# Altium integrated library Linear Technology Power Management LED Driver ICs.IntLib: 490 symbols (part 33 of 48)
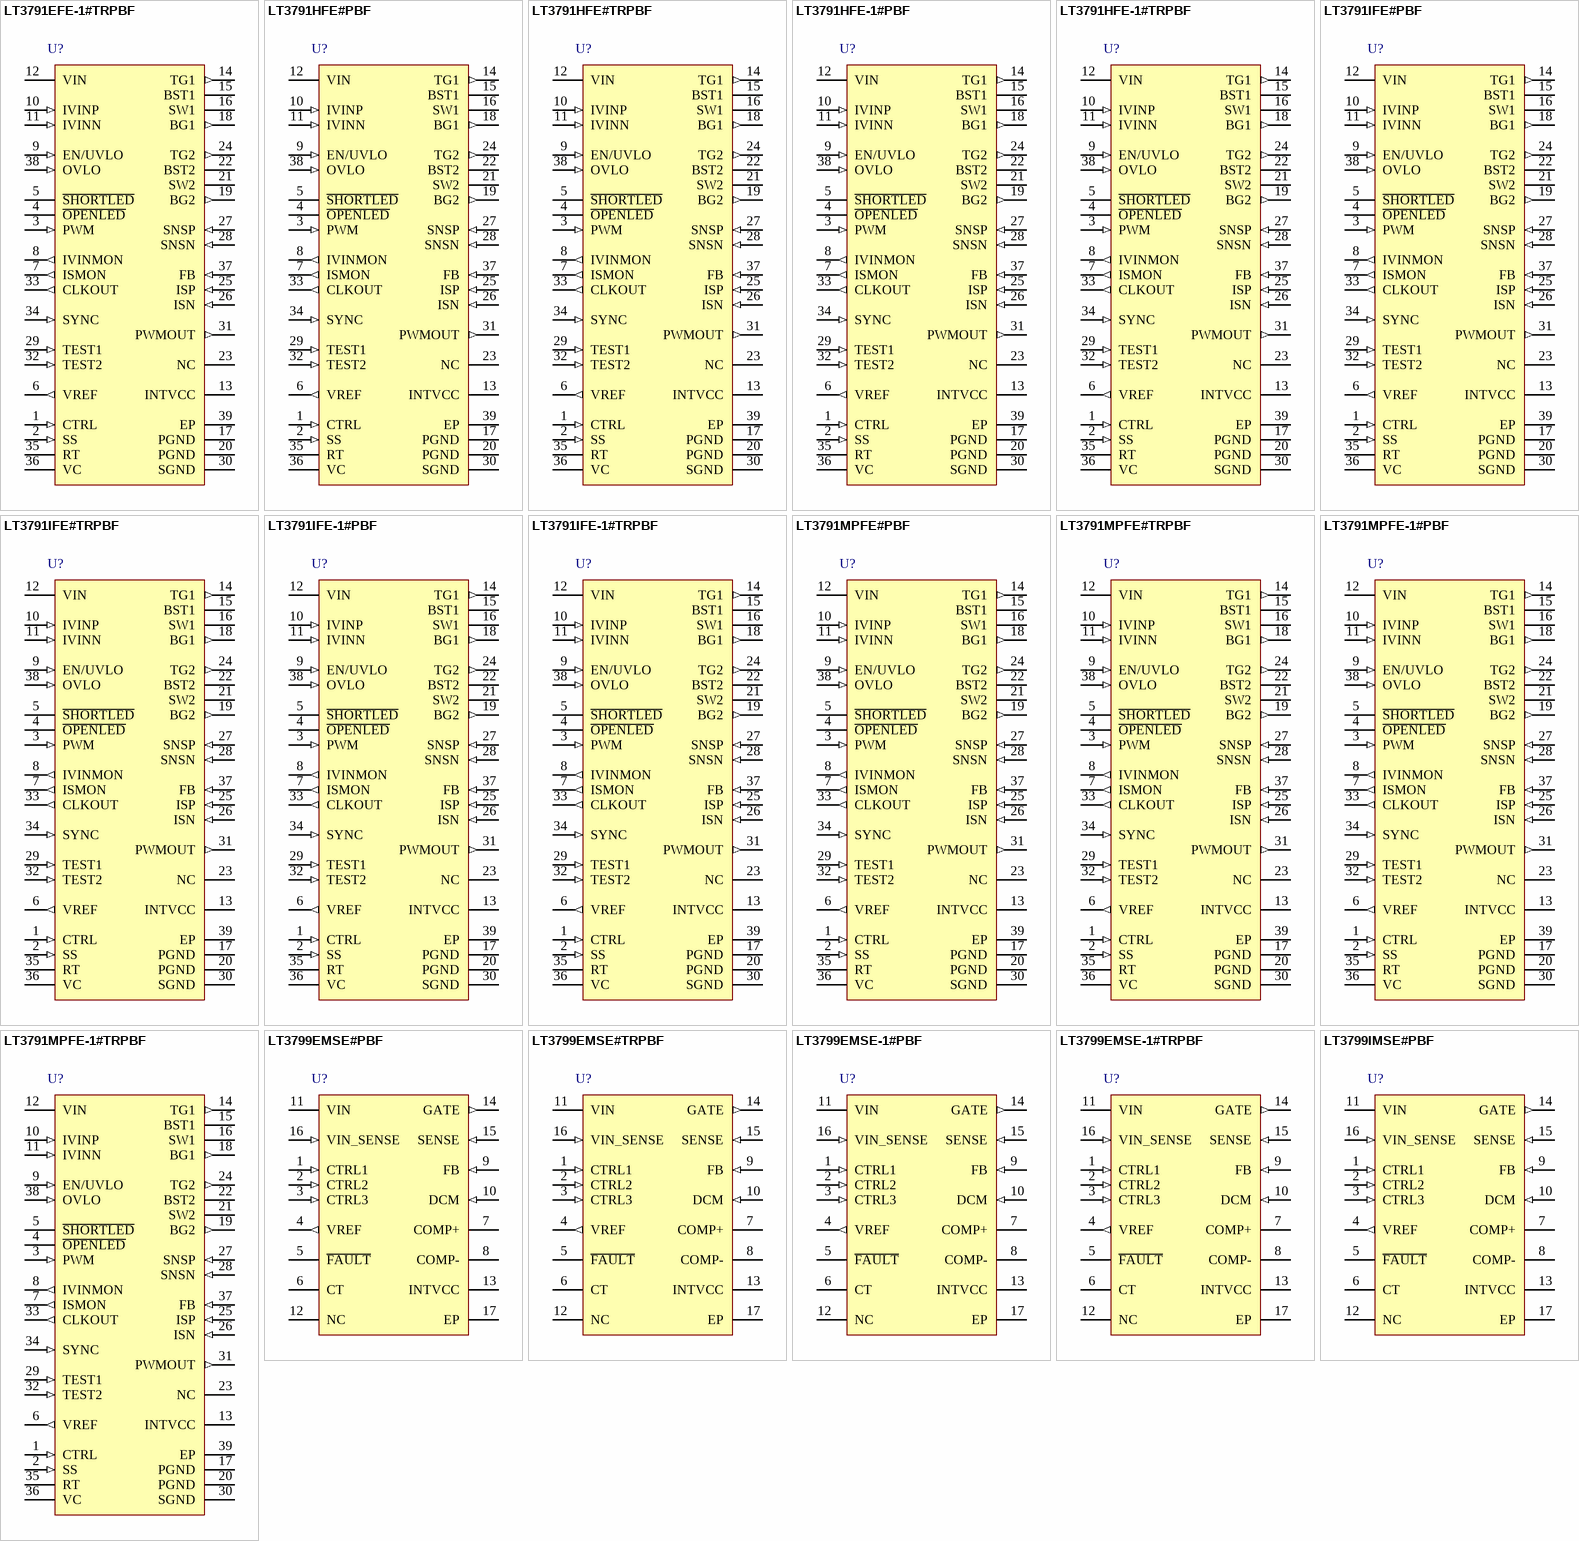
[diagram p52: symbols LT3791EFE-1#TRPBF to LT3799IMSE#PBF]

## LT3799EMSE-1#PBF
designator U?
Offline Isolated Flyback LED Controller with Active PFC, Offline 4 to 100 W+ LED Application, 16-pin SOP (MSE-16-EDP), -40 to 125 degC, Pb-Free; Manufacturer: Linear Technology; PartNumber: LT3799EMSE-1#PBF; DatasheetVersion: Rev. A; PackageVersion: Rev. F, 05/2013; PackageReference: MSE-16; PackageDescription: 16-Pin Plastic MSOP, Exposed Die Pad, Body 4.039 x 3 mm, Pitch 0.5 mm; Supplier 1: Digi-Key; Supplier Part Number 1: LT3799EMSE-1#PBF-ND; Supplier 2: Newark; Supplier Part Number 2: 78T4056; RoHS: TRUE; Topology: Flyback; Mounting Technology: Surface Mount; ComponentLink1Description: Manufacturer URL; ComponentLink1URL: http://www.linear.com/; ComponentLink2Description: Datasheet; ComponentLink2URL: http://cds.linear.com/docs/en/datasheet/3799fa.pdf; ComponentLink3Description: Package Specification; ComponentLink3URL: http://cds.linear.com/docs/en/packaging/05081667_F_MSE16.pdf
footprint LT-MSE-16-EDP_N (SOP, 16-Leads, Body 4.1x3.1mm, Pitch 0.5mm, Thermal Pad 2.95x1.76mm, IPC Medium Density)
footprint LT-MSE-16-EDP_L (SOP, 16-Leads, Body 4.1x3.1mm, Pitch 0.5mm, Thermal Pad 2.95x1.76mm, IPC High Density)
footprint LT-MSE-16-EDP_M (SOP, 16-Leads, Body 4.1x3.1mm, Pitch 0.5mm, Thermal Pad 2.95x1.76mm, IPC Low Density)
pins: 1 CTRL1 (in) "Current Output Adjustment Pins. These pins control the output current. The lowest value of the three CTRL inputs is compared to the negative input of the operational amplifier. Due to the unique nature of the LT3799 control (See Datasheet)", 2 CTRL2 (in) "Current Output Adjustment Pins. These pins control the output current. The lowest value of the three CTRL inputs is compared to the negative input of the operational amplifier. Due to the unique nature of the LT3799 control (See Datasheet)", 3 CTRL3 (in) "Current Output Adjustment Pins. These pins control the output current. The lowest value of the three CTRL inputs is compared to the negative input of the operational amplifier. Due to the unique nature of the LT3799 control (See Datasheet)", 4 VREF (out) "Voltage Reference Output Pin, Typically 2V. This pin drives a resistor divider for the CTRL pin, either for analog dimming or for temperature limit/compensation of LED load. Can supply up to 200uA.", 5 ~{FAULT} (oc) "Fault Pin. An open-collector pull-down on F\A\U\L\T\ asserts if FB is greater than 1.25V with the CT pin higher than 1.25V.", 6 CT "Timer Fault Pin. A capacitor is connected between this pin and ground to provide an internal timer for fault operations. During start-up, this pin is pulled to ground and then charged with a 10uA current. Faults related to (See Datasheet)", 7 COMP+ "Compensation Pins for Internal Error Amplifier. Connect a capacitor between these two pins to compensate the internal feedback loop.", 8 COMP- "Compensation Pins for Internal Error Amplifier. Connect a capacitor between these two pins to compensate the internal feedback loop.", 9 FB (in) "Voltage Loop Feedback Pin. FB is used to detect open LED conditions by sampling the third winding voltage. An open LED condition is reported if the CT pin and the FB pin are higher than 1.25V.", 10 DCM (in) "Discontinuous Conduction Mode Detection Pin. Connect a capacitor and resistor in series with this pin to the third winding.", 11 VIN (power) "Input Voltage. This pin supplies current to the internal start-up circuitry and to the INTVCC LDO. This pin must be locally bypassed with a capacitor. A 25V shunt regulator is internally connected to this pin.", 12 NC, 13 INTVCC (power) "Regulated Supply for Internal Loads and GATE Driver. Supplied from VIN and regulates to 10V (typical). INTVCC must be bypassed with a 4.7uF capacitor placed close to the pin.", 14 GATE (out) "N-Channel MOSFET Gate Driver Output. Switches between INTVCC and GND. This pin is pulled to GND during shutdown state.", 15 SENSE (in) "The Current Sense Input for the Control Loop. Kelvin connect this pin to the positive terminal of the switch current sense resistor, RSENSE, and the source of the N-channel MOSFET. The negative terminal of the current sense (See Datasheet)", 16 VIN_SENSE (in) "Line Voltage Sense Pin. The pin is used for sensing the AC line voltage to perform power factor correction. Connect the output of a resistor divider from the line voltage to this pin. The voltage on this pin should be (See Datasheet)", 17 EP (power) "Ground. The exposed pad of the package provides both electrical contact to ground and good thermal contact to the printed circuit board. The exposed pad must be soldered to the circuit board for proper operation."

## LT3799EMSE-1#TRPBF
designator U?
Offline Isolated Flyback LED Controller with Active PFC, Offline 4 to 100 W+ LED Application, 16-pin SOP (MSE-16-EDP), -40 to 125 degC, Pb-Free, Tape and Reel; Manufacturer: Linear Technology; PartNumber: LT3799EMSE-1#TRPBF; DatasheetVersion: Rev. A; PackageVersion: Rev. F, 05/2013; PackageReference: MSE-16; PackageDescription: 16-Pin Plastic MSOP, Exposed Die Pad, Body 4.039 x 3 mm, Pitch 0.5 mm; Supplier 1: Digi-Key; Supplier Part Number 1: LT3799EMSE-1#TRPBF-ND; Packing: Tape and Reel; RoHS: TRUE; Topology: Flyback; Mounting Technology: Surface Mount; ComponentLink1Description: Manufacturer URL; ComponentLink1URL: http://www.linear.com/; ComponentLink2Description: Datasheet; ComponentLink2URL: http://cds.linear.com/docs/en/datasheet/3799fa.pdf; ComponentLink3Description: Package Specification; ComponentLink3URL: http://cds.linear.com/docs/en/packaging/05081667_F_MSE16.pdf
footprint LT-MSE-16-EDP_N (SOP, 16-Leads, Body 4.1x3.1mm, Pitch 0.5mm, Thermal Pad 2.95x1.76mm, IPC Medium Density)
footprint LT-MSE-16-EDP_L (SOP, 16-Leads, Body 4.1x3.1mm, Pitch 0.5mm, Thermal Pad 2.95x1.76mm, IPC High Density)
footprint LT-MSE-16-EDP_M (SOP, 16-Leads, Body 4.1x3.1mm, Pitch 0.5mm, Thermal Pad 2.95x1.76mm, IPC Low Density)
pins: 1 CTRL1 (in) "Current Output Adjustment Pins. These pins control the output current. The lowest value of the three CTRL inputs is compared to the negative input of the operational amplifier. Due to the unique nature of the LT3799 control (See Datasheet)", 2 CTRL2 (in) "Current Output Adjustment Pins. These pins control the output current. The lowest value of the three CTRL inputs is compared to the negative input of the operational amplifier. Due to the unique nature of the LT3799 control (See Datasheet)", 3 CTRL3 (in) "Current Output Adjustment Pins. These pins control the output current. The lowest value of the three CTRL inputs is compared to the negative input of the operational amplifier. Due to the unique nature of the LT3799 control (See Datasheet)", 4 VREF (out) "Voltage Reference Output Pin, Typically 2V. This pin drives a resistor divider for the CTRL pin, either for analog dimming or for temperature limit/compensation of LED load. Can supply up to 200uA.", 5 ~{FAULT} (oc) "Fault Pin. An open-collector pull-down on F\A\U\L\T\ asserts if FB is greater than 1.25V with the CT pin higher than 1.25V.", 6 CT "Timer Fault Pin. A capacitor is connected between this pin and ground to provide an internal timer for fault operations. During start-up, this pin is pulled to ground and then charged with a 10uA current. Faults related to (See Datasheet)", 7 COMP+ "Compensation Pins for Internal Error Amplifier. Connect a capacitor between these two pins to compensate the internal feedback loop.", 8 COMP- "Compensation Pins for Internal Error Amplifier. Connect a capacitor between these two pins to compensate the internal feedback loop.", 9 FB (in) "Voltage Loop Feedback Pin. FB is used to detect open LED conditions by sampling the third winding voltage. An open LED condition is reported if the CT pin and the FB pin are higher than 1.25V.", 10 DCM (in) "Discontinuous Conduction Mode Detection Pin. Connect a capacitor and resistor in series with this pin to the third winding.", 11 VIN (power) "Input Voltage. This pin supplies current to the internal start-up circuitry and to the INTVCC LDO. This pin must be locally bypassed with a capacitor. A 25V shunt regulator is internally connected to this pin.", 12 NC, 13 INTVCC (power) "Regulated Supply for Internal Loads and GATE Driver. Supplied from VIN and regulates to 10V (typical). INTVCC must be bypassed with a 4.7uF capacitor placed close to the pin.", 14 GATE (out) "N-Channel MOSFET Gate Driver Output. Switches between INTVCC and GND. This pin is pulled to GND during shutdown state.", 15 SENSE (in) "The Current Sense Input for the Control Loop. Kelvin connect this pin to the positive terminal of the switch current sense resistor, RSENSE, and the source of the N-channel MOSFET. The negative terminal of the current sense (See Datasheet)", 16 VIN_SENSE (in) "Line Voltage Sense Pin. The pin is used for sensing the AC line voltage to perform power factor correction. Connect the output of a resistor divider from the line voltage to this pin. The voltage on this pin should be (See Datasheet)", 17 EP (power) "Ground. The exposed pad of the package provides both electrical contact to ground and good thermal contact to the printed circuit board. The exposed pad must be soldered to the circuit board for proper operation."

## LT3799IMSE#PBF
designator U?
Offline Isolated Flyback LED Controller with Active PFC, Offline 4 to 100 W+ LED Application, 16-pin SOP (MSE-16-EDP), -40 to 125 degC, Pb-Free; Manufacturer: Linear Technology; PartNumber: LT3799IMSE#PBF; DatasheetVersion: Rev. A; PackageVersion: Rev. F, 05/2013; PackageReference: MSE-16; PackageDescription: 16-Pin Plastic MSOP, Exposed Die Pad, Body 4.039 x 3 mm, Pitch 0.5 mm; Supplier 1: Digi-Key; Supplier Part Number 1: LT3799IMSE#PBF-ND; Supplier 2: Newark; Supplier Part Number 2: 28T0560; RoHS: TRUE; Topology: Flyback; Mounting Technology: Surface Mount; ComponentLink1Description: Manufacturer URL; ComponentLink1URL: http://www.linear.com/; ComponentLink2Description: Datasheet; ComponentLink2URL: http://cds.linear.com/docs/en/datasheet/3799fa.pdf; ComponentLink3Description: Package Specification; ComponentLink3URL: http://cds.linear.com/docs/en/packaging/05081667_F_MSE16.pdf
footprint LT-MSE-16-EDP_N (SOP, 16-Leads, Body 4.1x3.1mm, Pitch 0.5mm, Thermal Pad 2.95x1.76mm, IPC Medium Density)
footprint LT-MSE-16-EDP_L (SOP, 16-Leads, Body 4.1x3.1mm, Pitch 0.5mm, Thermal Pad 2.95x1.76mm, IPC High Density)
footprint LT-MSE-16-EDP_M (SOP, 16-Leads, Body 4.1x3.1mm, Pitch 0.5mm, Thermal Pad 2.95x1.76mm, IPC Low Density)
pins: 1 CTRL1 (in) "Current Output Adjustment Pins. These pins control the output current. The lowest value of the three CTRL inputs is compared to the negative input of the operational amplifier. Due to the unique nature of the LT3799 control (See Datasheet)", 2 CTRL2 (in) "Current Output Adjustment Pins. These pins control the output current. The lowest value of the three CTRL inputs is compared to the negative input of the operational amplifier. Due to the unique nature of the LT3799 control (See Datasheet)", 3 CTRL3 (in) "Current Output Adjustment Pins. These pins control the output current. The lowest value of the three CTRL inputs is compared to the negative input of the operational amplifier. Due to the unique nature of the LT3799 control (See Datasheet)", 4 VREF (out) "Voltage Reference Output Pin, Typically 2V. This pin drives a resistor divider for the CTRL pin, either for analog dimming or for temperature limit/compensation of LED load. Can supply up to 200uA.", 5 ~{FAULT} (oc) "Fault Pin. An open-collector pull-down on F\A\U\L\T\ asserts if FB is greater than 1.25V with the CT pin higher than 1.25V.", 6 CT "Timer Fault Pin. A capacitor is connected between this pin and ground to provide an internal timer for fault operations. During start-up, this pin is pulled to ground and then charged with a 10uA current. Faults related to (See Datasheet)", 7 COMP+ "Compensation Pins for Internal Error Amplifier. Connect a capacitor between these two pins to compensate the internal feedback loop.", 8 COMP- "Compensation Pins for Internal Error Amplifier. Connect a capacitor between these two pins to compensate the internal feedback loop.", 9 FB (in) "Voltage Loop Feedback Pin. FB is used to detect open LED conditions by sampling the third winding voltage. An open LED condition is reported if the CT pin and the FB pin are higher than 1.25V.", 10 DCM (in) "Discontinuous Conduction Mode Detection Pin. Connect a capacitor and resistor in series with this pin to the third winding.", 11 VIN (power) "Input Voltage. This pin supplies current to the internal start-up circuitry and to the INTVCC LDO. This pin must be locally bypassed with a capacitor. A 25V shunt regulator is internally connected to this pin.", 12 NC, 13 INTVCC (power) "Regulated Supply for Internal Loads and GATE Driver. Supplied from VIN and regulates to 10V (typical). INTVCC must be bypassed with a 4.7uF capacitor placed close to the pin.", 14 GATE (out) "N-Channel MOSFET Gate Driver Output. Switches between INTVCC and GND. This pin is pulled to GND during shutdown state.", 15 SENSE (in) "The Current Sense Input for the Control Loop. Kelvin connect this pin to the positive terminal of the switch current sense resistor, RSENSE, and the source of the N-channel MOSFET. The negative terminal of the current sense (See Datasheet)", 16 VIN_SENSE (in) "Line Voltage Sense Pin. The pin is used for sensing the AC line voltage to perform power factor correction. Connect the output of a resistor divider from the line voltage to this pin. The voltage on this pin should be (See Datasheet)", 17 EP (power) "Ground. The exposed pad of the package provides both electrical contact to ground and good thermal contact to the printed circuit board. The exposed pad must be soldered to the circuit board for proper operation."

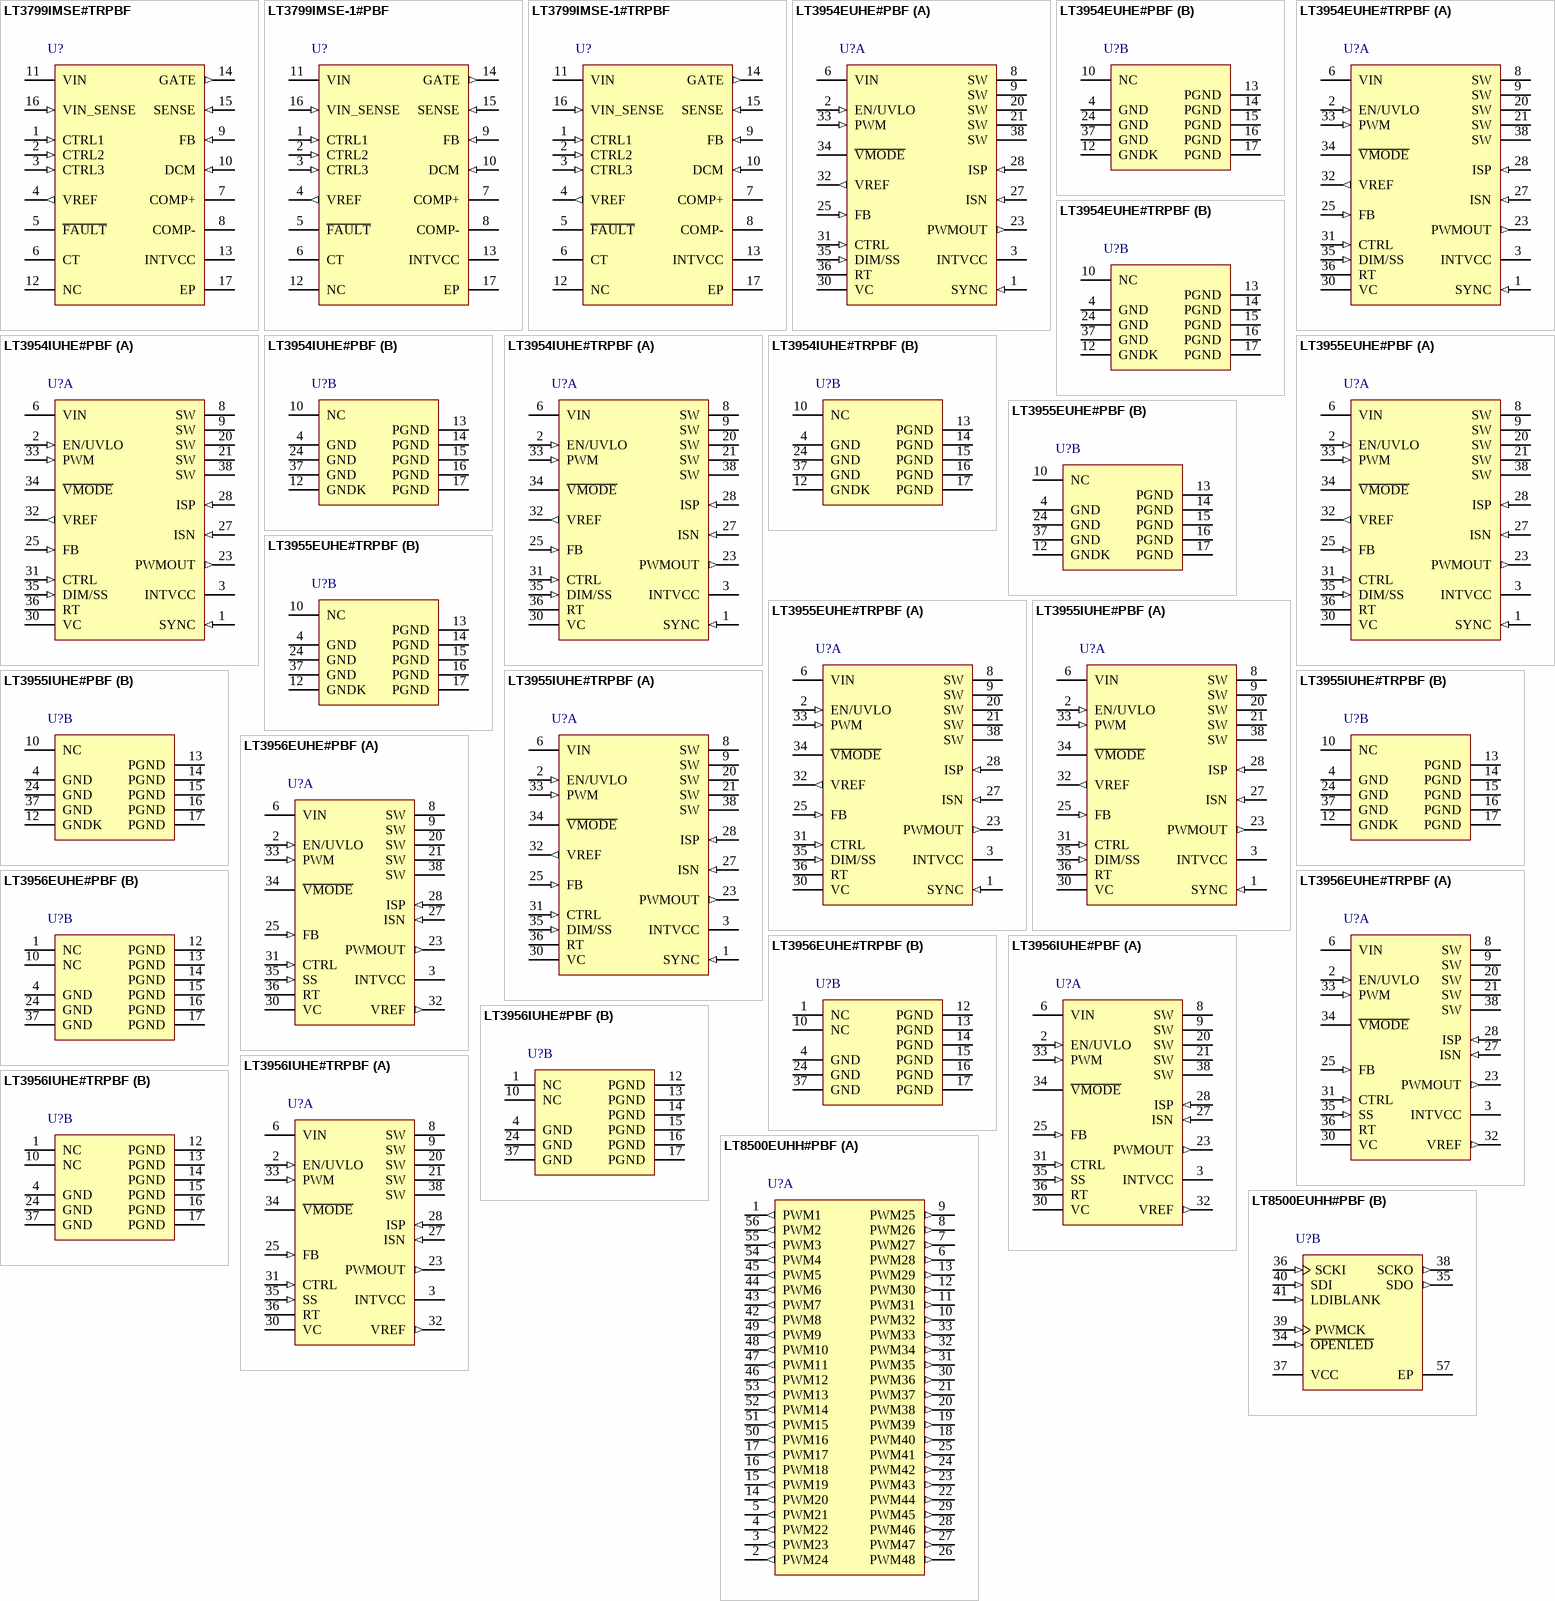
[diagram p14: symbols LT3799IMSE#TRPBF to LT8500EUHH#PBF]

## LT3799IMSE#TRPBF
designator U?
Offline Isolated Flyback LED Controller with Active PFC, Offline 4 to 100 W+ LED Application, 16-pin SOP (MSE-16-EDP), -40 to 125 degC, Pb-Free, Tape and Reel; Manufacturer: Linear Technology; PartNumber: LT3799IMSE#TRPBF; DatasheetVersion: Rev. A; PackageVersion: Rev. F, 05/2013; PackageReference: MSE-16; PackageDescription: 16-Pin Plastic MSOP, Exposed Die Pad, Body 4.039 x 3 mm, Pitch 0.5 mm; Supplier 1: Digi-Key; Supplier Part Number 1: LT3799IMSE#TRPBF-ND; Packing: Tape and Reel; RoHS: TRUE; Topology: Flyback; Mounting Technology: Surface Mount; ComponentLink1Description: Manufacturer URL; ComponentLink1URL: http://www.linear.com/; ComponentLink2Description: Datasheet; ComponentLink2URL: http://cds.linear.com/docs/en/datasheet/3799fa.pdf; ComponentLink3Description: Package Specification; ComponentLink3URL: http://cds.linear.com/docs/en/packaging/05081667_F_MSE16.pdf
footprint LT-MSE-16-EDP_N (SOP, 16-Leads, Body 4.1x3.1mm, Pitch 0.5mm, Thermal Pad 2.95x1.76mm, IPC Medium Density)
footprint LT-MSE-16-EDP_L (SOP, 16-Leads, Body 4.1x3.1mm, Pitch 0.5mm, Thermal Pad 2.95x1.76mm, IPC High Density)
footprint LT-MSE-16-EDP_M (SOP, 16-Leads, Body 4.1x3.1mm, Pitch 0.5mm, Thermal Pad 2.95x1.76mm, IPC Low Density)
pins: 1 CTRL1 (in) "Current Output Adjustment Pins. These pins control the output current. The lowest value of the three CTRL inputs is compared to the negative input of the operational amplifier. Due to the unique nature of the LT3799 control (See Datasheet)", 2 CTRL2 (in) "Current Output Adjustment Pins. These pins control the output current. The lowest value of the three CTRL inputs is compared to the negative input of the operational amplifier. Due to the unique nature of the LT3799 control (See Datasheet)", 3 CTRL3 (in) "Current Output Adjustment Pins. These pins control the output current. The lowest value of the three CTRL inputs is compared to the negative input of the operational amplifier. Due to the unique nature of the LT3799 control (See Datasheet)", 4 VREF (out) "Voltage Reference Output Pin, Typically 2V. This pin drives a resistor divider for the CTRL pin, either for analog dimming or for temperature limit/compensation of LED load. Can supply up to 200uA.", 5 ~{FAULT} (oc) "Fault Pin. An open-collector pull-down on F\A\U\L\T\ asserts if FB is greater than 1.25V with the CT pin higher than 1.25V.", 6 CT "Timer Fault Pin. A capacitor is connected between this pin and ground to provide an internal timer for fault operations. During start-up, this pin is pulled to ground and then charged with a 10uA current. Faults related to (See Datasheet)", 7 COMP+ "Compensation Pins for Internal Error Amplifier. Connect a capacitor between these two pins to compensate the internal feedback loop.", 8 COMP- "Compensation Pins for Internal Error Amplifier. Connect a capacitor between these two pins to compensate the internal feedback loop.", 9 FB (in) "Voltage Loop Feedback Pin. FB is used to detect open LED conditions by sampling the third winding voltage. An open LED condition is reported if the CT pin and the FB pin are higher than 1.25V.", 10 DCM (in) "Discontinuous Conduction Mode Detection Pin. Connect a capacitor and resistor in series with this pin to the third winding.", 11 VIN (power) "Input Voltage. This pin supplies current to the internal start-up circuitry and to the INTVCC LDO. This pin must be locally bypassed with a capacitor. A 25V shunt regulator is internally connected to this pin.", 12 NC, 13 INTVCC (power) "Regulated Supply for Internal Loads and GATE Driver. Supplied from VIN and regulates to 10V (typical). INTVCC must be bypassed with a 4.7uF capacitor placed close to the pin.", 14 GATE (out) "N-Channel MOSFET Gate Driver Output. Switches between INTVCC and GND. This pin is pulled to GND during shutdown state.", 15 SENSE (in) "The Current Sense Input for the Control Loop. Kelvin connect this pin to the positive terminal of the switch current sense resistor, RSENSE, and the source of the N-channel MOSFET. The negative terminal of the current sense (See Datasheet)", 16 VIN_SENSE (in) "Line Voltage Sense Pin. The pin is used for sensing the AC line voltage to perform power factor correction. Connect the output of a resistor divider from the line voltage to this pin. The voltage on this pin should be (See Datasheet)", 17 EP (power) "Ground. The exposed pad of the package provides both electrical contact to ground and good thermal contact to the printed circuit board. The exposed pad must be soldered to the circuit board for proper operation."

## LT3799IMSE-1#PBF
designator U?
Offline Isolated Flyback LED Controller with Active PFC, Offline 4 to 100 W+ LED Application, 16-pin SOP (MSE-16-EDP), -40 to 125 degC, Pb-Free; Manufacturer: Linear Technology; PartNumber: LT3799IMSE-1#PBF; DatasheetVersion: Rev. A; PackageVersion: Rev. F, 05/2013; PackageReference: MSE-16; PackageDescription: 16-Pin Plastic MSOP, Exposed Die Pad, Body 4.039 x 3 mm, Pitch 0.5 mm; Supplier 1: Digi-Key; Supplier Part Number 1: LT3799IMSE-1#PBF-ND; RoHS: TRUE; Topology: Flyback; Mounting Technology: Surface Mount; ComponentLink1Description: Manufacturer URL; ComponentLink1URL: http://www.linear.com/; ComponentLink2Description: Datasheet; ComponentLink2URL: http://cds.linear.com/docs/en/datasheet/3799fa.pdf; ComponentLink3Description: Package Specification; ComponentLink3URL: http://cds.linear.com/docs/en/packaging/05081667_F_MSE16.pdf
footprint LT-MSE-16-EDP_N (SOP, 16-Leads, Body 4.1x3.1mm, Pitch 0.5mm, Thermal Pad 2.95x1.76mm, IPC Medium Density)
footprint LT-MSE-16-EDP_L (SOP, 16-Leads, Body 4.1x3.1mm, Pitch 0.5mm, Thermal Pad 2.95x1.76mm, IPC High Density)
footprint LT-MSE-16-EDP_M (SOP, 16-Leads, Body 4.1x3.1mm, Pitch 0.5mm, Thermal Pad 2.95x1.76mm, IPC Low Density)
pins: 1 CTRL1 (in) "Current Output Adjustment Pins. These pins control the output current. The lowest value of the three CTRL inputs is compared to the negative input of the operational amplifier. Due to the unique nature of the LT3799 control (See Datasheet)", 2 CTRL2 (in) "Current Output Adjustment Pins. These pins control the output current. The lowest value of the three CTRL inputs is compared to the negative input of the operational amplifier. Due to the unique nature of the LT3799 control (See Datasheet)", 3 CTRL3 (in) "Current Output Adjustment Pins. These pins control the output current. The lowest value of the three CTRL inputs is compared to the negative input of the operational amplifier. Due to the unique nature of the LT3799 control (See Datasheet)", 4 VREF (out) "Voltage Reference Output Pin, Typically 2V. This pin drives a resistor divider for the CTRL pin, either for analog dimming or for temperature limit/compensation of LED load. Can supply up to 200uA.", 5 ~{FAULT} (oc) "Fault Pin. An open-collector pull-down on F\A\U\L\T\ asserts if FB is greater than 1.25V with the CT pin higher than 1.25V.", 6 CT "Timer Fault Pin. A capacitor is connected between this pin and ground to provide an internal timer for fault operations. During start-up, this pin is pulled to ground and then charged with a 10uA current. Faults related to (See Datasheet)", 7 COMP+ "Compensation Pins for Internal Error Amplifier. Connect a capacitor between these two pins to compensate the internal feedback loop.", 8 COMP- "Compensation Pins for Internal Error Amplifier. Connect a capacitor between these two pins to compensate the internal feedback loop.", 9 FB (in) "Voltage Loop Feedback Pin. FB is used to detect open LED conditions by sampling the third winding voltage. An open LED condition is reported if the CT pin and the FB pin are higher than 1.25V.", 10 DCM (in) "Discontinuous Conduction Mode Detection Pin. Connect a capacitor and resistor in series with this pin to the third winding.", 11 VIN (power) "Input Voltage. This pin supplies current to the internal start-up circuitry and to the INTVCC LDO. This pin must be locally bypassed with a capacitor. A 25V shunt regulator is internally connected to this pin.", 12 NC, 13 INTVCC (power) "Regulated Supply for Internal Loads and GATE Driver. Supplied from VIN and regulates to 10V (typical). INTVCC must be bypassed with a 4.7uF capacitor placed close to the pin.", 14 GATE (out) "N-Channel MOSFET Gate Driver Output. Switches between INTVCC and GND. This pin is pulled to GND during shutdown state.", 15 SENSE (in) "The Current Sense Input for the Control Loop. Kelvin connect this pin to the positive terminal of the switch current sense resistor, RSENSE, and the source of the N-channel MOSFET. The negative terminal of the current sense (See Datasheet)", 16 VIN_SENSE (in) "Line Voltage Sense Pin. The pin is used for sensing the AC line voltage to perform power factor correction. Connect the output of a resistor divider from the line voltage to this pin. The voltage on this pin should be (See Datasheet)", 17 EP (power) "Ground. The exposed pad of the package provides both electrical contact to ground and good thermal contact to the printed circuit board. The exposed pad must be soldered to the circuit board for proper operation."

## LT3799IMSE-1#TRPBF
designator U?
Offline Isolated Flyback LED Controller with Active PFC, Offline 4 to 100 W+ LED Application, 16-pin SOP (MSE-16-EDP), -40 to 125 degC, Pb-Free, Tape and Reel; Manufacturer: Linear Technology; PartNumber: LT3799IMSE-1#TRPBF; DatasheetVersion: Rev. A; PackageVersion: Rev. F, 05/2013; PackageReference: MSE-16; PackageDescription: 16-Pin Plastic MSOP, Exposed Die Pad, Body 4.039 x 3 mm, Pitch 0.5 mm; Supplier 1: Digi-Key; Supplier Part Number 1: LT3799IMSE-1#TRPBF-ND; Packing: Tape and Reel; RoHS: TRUE; Topology: Flyback; Mounting Technology: Surface Mount; ComponentLink1Description: Manufacturer URL; ComponentLink1URL: http://www.linear.com/; ComponentLink2Description: Datasheet; ComponentLink2URL: http://cds.linear.com/docs/en/datasheet/3799fa.pdf; ComponentLink3Description: Package Specification; ComponentLink3URL: http://cds.linear.com/docs/en/packaging/05081667_F_MSE16.pdf
footprint LT-MSE-16-EDP_N (SOP, 16-Leads, Body 4.1x3.1mm, Pitch 0.5mm, Thermal Pad 2.95x1.76mm, IPC Medium Density)
footprint LT-MSE-16-EDP_L (SOP, 16-Leads, Body 4.1x3.1mm, Pitch 0.5mm, Thermal Pad 2.95x1.76mm, IPC High Density)
footprint LT-MSE-16-EDP_M (SOP, 16-Leads, Body 4.1x3.1mm, Pitch 0.5mm, Thermal Pad 2.95x1.76mm, IPC Low Density)
pins: 1 CTRL1 (in) "Current Output Adjustment Pins. These pins control the output current. The lowest value of the three CTRL inputs is compared to the negative input of the operational amplifier. Due to the unique nature of the LT3799 control (See Datasheet)", 2 CTRL2 (in) "Current Output Adjustment Pins. These pins control the output current. The lowest value of the three CTRL inputs is compared to the negative input of the operational amplifier. Due to the unique nature of the LT3799 control (See Datasheet)", 3 CTRL3 (in) "Current Output Adjustment Pins. These pins control the output current. The lowest value of the three CTRL inputs is compared to the negative input of the operational amplifier. Due to the unique nature of the LT3799 control (See Datasheet)", 4 VREF (out) "Voltage Reference Output Pin, Typically 2V. This pin drives a resistor divider for the CTRL pin, either for analog dimming or for temperature limit/compensation of LED load. Can supply up to 200uA.", 5 ~{FAULT} (oc) "Fault Pin. An open-collector pull-down on F\A\U\L\T\ asserts if FB is greater than 1.25V with the CT pin higher than 1.25V.", 6 CT "Timer Fault Pin. A capacitor is connected between this pin and ground to provide an internal timer for fault operations. During start-up, this pin is pulled to ground and then charged with a 10uA current. Faults related to (See Datasheet)", 7 COMP+ "Compensation Pins for Internal Error Amplifier. Connect a capacitor between these two pins to compensate the internal feedback loop.", 8 COMP- "Compensation Pins for Internal Error Amplifier. Connect a capacitor between these two pins to compensate the internal feedback loop.", 9 FB (in) "Voltage Loop Feedback Pin. FB is used to detect open LED conditions by sampling the third winding voltage. An open LED condition is reported if the CT pin and the FB pin are higher than 1.25V.", 10 DCM (in) "Discontinuous Conduction Mode Detection Pin. Connect a capacitor and resistor in series with this pin to the third winding.", 11 VIN (power) "Input Voltage. This pin supplies current to the internal start-up circuitry and to the INTVCC LDO. This pin must be locally bypassed with a capacitor. A 25V shunt regulator is internally connected to this pin.", 12 NC, 13 INTVCC (power) "Regulated Supply for Internal Loads and GATE Driver. Supplied from VIN and regulates to 10V (typical). INTVCC must be bypassed with a 4.7uF capacitor placed close to the pin.", 14 GATE (out) "N-Channel MOSFET Gate Driver Output. Switches between INTVCC and GND. This pin is pulled to GND during shutdown state.", 15 SENSE (in) "The Current Sense Input for the Control Loop. Kelvin connect this pin to the positive terminal of the switch current sense resistor, RSENSE, and the source of the N-channel MOSFET. The negative terminal of the current sense (See Datasheet)", 16 VIN_SENSE (in) "Line Voltage Sense Pin. The pin is used for sensing the AC line voltage to perform power factor correction. Connect the output of a resistor divider from the line voltage to this pin. The voltage on this pin should be (See Datasheet)", 17 EP (power) "Ground. The exposed pad of the package provides both electrical contact to ground and good thermal contact to the printed circuit board. The exposed pad must be soldered to the circuit board for proper operation."

## LT3954EUHE#PBF
designator U?
LED Converter with Internal PWM Generator, 4.5 to 40 V Vin, 40 V Vout MAX, 36-pin QFN (UHE-36-V-UHE28MA), -40 to 125 degC, Pb-Free; Manufacturer: Linear Technology; PartNumber: LT3954EUHE#PBF; Topology: Buck, Boost, Sepic, Buck-Boost, LED Driver; Vin Min(V): 4.5; PackageVersion: Rev. D, 02/2012; PackageReference: UHE-36; PackageDescription: 28-Pin Plastic QFN, Body 5 x 6 mm, Pitch 0.5 mm; RoHS: TRUE; Mounting Technology: Surface Mount; ComponentLink1Description: Manufacturer URL; ComponentLink1URL: http://www.linear.com/; ComponentLink2Description: Datasheet; ComponentLink2URL: http://cds.linear.com/docs/en/datasheet/3954f.pdf; ComponentLink3Description: Package Specification; ComponentLink3URL: http://cds.linear.com/docs/en/packaging/QFN_28_05-08-1836.pdf
footprint LT-UHE-36-V-UHE28MA_V (QFN, 28-Leads, Body 6x5mm, Pitch 0.5mm)
part A pins: 1 SYNC (in) "Frequency Synchronization Pin. Used to synchronize the internal oscillator to an outside clock. If this feature is used, an RT resistor should be chosen to program a switching frequency 20% slower than SYNC pulse frequency. (See Datasheet)", 2 EN/UVLO (in) "Enable and Undervoltage Detect Pin. An accurate 1.22V falling threshold with externally programmable hysteresis causes the switching regulator to shut down when power is insufficient to maintain output regulation. Above the (See Datasheet)", 3 INTVCC (power) "Current limited, low dropout linear regulator regulates to 7.85V (typical) from VIN. Supplies internal loads, SW and PWMOUT drivers. Must be bypassed with a 1uF ceramic capacitor placed close to the pin and to the exposed (See Datasheet)", 6 VIN (power) "Power Supply for Internal Loads and INTVCC Regulator. Must be locally bypassed with a 0.22uF (or larger) low ESR capacitor placed close to the pin.", 8 SW (power) "Drain of Internal Power N-channel MOSFET.", 9 SW (power) "Drain of Internal Power N-channel MOSFET.", 20 SW (power) "Drain of Internal Power N-channel MOSFET.", 21 SW (power) "Drain of Internal Power N-channel MOSFET.", 23 PWMOUT (out) "Buffered Version of PWM Signal for Driving LED Load Disconnect NMOS or Level Shift. This pin also serves in a protection function for the FB overvoltage condition-will toggle if the FB input is greater than the FB regulation (See Datasheet)", 25 FB (in) "Voltage Loop Feedback Pin. FB is intended for constant-voltage regulation or for LED protection and open LED detection. The internal transconductance amplifier with output VC will regulate FB to 1.25V (nominal) through the (See Datasheet)", 27 ISN (in) "Connection Point for the Negative Terminal of the Current Feedback Resistor. The constant output current regulation can be programmed by ILED = 250mV/ RLED when CTRL > 1.2V or ILED = (CTRL - 100mV)/(4 ? RLED). If ISN i(See Datasheet)", 28 ISP (in) "Connection Point for the Positive Terminal of the Current Feedback Resistor. Input bias current depends upon CTRL pin voltage. When it is greater than INTVCC it flows into the pin. Below INTVCC, ISP bias current decreases (See Datasheet)", 30 VC "Transconductance Error Amplifier Output Pin Used to Stabilize the Switching Regulator Control Loop with an RC Network. The VC pin is high impedance when PWM is low. This feature allows the VC pin to store the demand current (See Datasheet)", 31 CTRL (in) "Current Sense Threshold Adjustment Pin. Constant current regulation point VISP-ISN is one-fourth VCTRL plus an offset for 0V = CTRL = 1V. For CTRL > 1.2V the VISP-ISN current regulation point is constant at the full-scale (See Datasheet)", 32 VREF (out) "Voltage Reference Output Pin, Typically 2V. This pin drives a resistor divider for the CTRL pin, either for analog dimming or for temperature limit/compensation of LED load. It can be bypassed with 10nF or greater, or less (See Datasheet)", 33 PWM (in) "A signal low turns off switcher, idles the oscillator and disconnects the VC pin from all internal loads. PWMOUT pin follows the PWM pin, except in fault conditions. The PWM pin can be driven with a digital signal to cause (See Datasheet)", 34 ~{VMODE} (oc) "An open-drain pull-down on this pin asserts if the FB input is greater than the FB regulation voltage (VFB) minus 50mV (typical) AND the differenc between current sense inputs ISP and ISN is less than 25mV. To function, the (See Datasheet)", 35 DIM/SS (in) "Soft-Start and PWM Dimming Signal Generator Programming Pin. This pin modulates switching regulator frequency and compensation pin voltage (VC) clamp when it is below 1V. The soft-start interval is set with an external (See Datasheet)", 36 RT "Switching Frequency Adjustment Pin. Set the frequency using a resistor to GND (for resistor values, see the Typical Performance curve or Table 2). Do not leave the RT pin open. Place the resistor close to the IC.", 38 SW (power) "Drain of Internal Power N-channel MOSFET."
part B pins: 4 GND (power) "Ground. Solder the exposed pads directly to the ground plane.", 10 NC, 12 GNDK (power) "Kelvin Connection Pin between PGND and GND. Kelvin connect this pin to the GND plane close to the IC. See the Board Layout section.", 13 PGND (power) "Source Terminal Switch and the GND Input to the Switch Current Comparator.", 14 PGND (power) "Source Terminal Switch and the GND Input to the Switch Current Comparator.", 15 PGND (power) "Source Terminal Switch and the GND Input to the Switch Current Comparator.", 16 PGND (power) "Source Terminal Switch and the GND Input to the Switch Current Comparator.", 17 PGND (power) "Source Terminal Switch and the GND Input to the Switch Current Comparator.", 24 GND (power) "Ground. Solder the exposed pads directly to the ground plane.", 37 GND (power) "Ground. Solder the exposed pads directly to the ground plane."

## LT3954EUHE#TRPBF
designator U?
LED Converter with Internal PWM Generator, 4.5 to 40 V Vin, 40 V Vout MAX, 36-pin QFN (UHE-36-V-UHE28MA), -40 to 125 degC, Pb-Free, Tape and Reel; Manufacturer: Linear Technology; PartNumber: LT3954EUHE#TRPBF; Topology: Buck, Boost, Sepic, Buck-Boost, LED Driver; Vin Min(V): 4.5; PackageVersion: Rev. D, 02/2012; PackageReference: UHE-36; PackageDescription: 28-Pin Plastic QFN, Body 5 x 6 mm, Pitch 0.5 mm; Packing: Tape and Reel; RoHS: TRUE; Mounting Technology: Surface Mount; ComponentLink1Description: Manufacturer URL; ComponentLink1URL: http://www.linear.com/; ComponentLink2Description: Datasheet; ComponentLink2URL: http://cds.linear.com/docs/en/datasheet/3954f.pdf; ComponentLink3Description: Package Specification; ComponentLink3URL: http://cds.linear.com/docs/en/packaging/QFN_28_05-08-1836.pdf
footprint LT-UHE-36-V-UHE28MA_V (QFN, 28-Leads, Body 6x5mm, Pitch 0.5mm)
part A pins: 1 SYNC (in) "Frequency Synchronization Pin. Used to synchronize the internal oscillator to an outside clock. If this feature is used, an RT resistor should be chosen to program a switching frequency 20% slower than SYNC pulse frequency. (See Datasheet)", 2 EN/UVLO (in) "Enable and Undervoltage Detect Pin. An accurate 1.22V falling threshold with externally programmable hysteresis causes the switching regulator to shut down when power is insufficient to maintain output regulation. Above the (See Datasheet)", 3 INTVCC (power) "Current limited, low dropout linear regulator regulates to 7.85V (typical) from VIN. Supplies internal loads, SW and PWMOUT drivers. Must be bypassed with a 1uF ceramic capacitor placed close to the pin and to the exposed (See Datasheet)", 6 VIN (power) "Power Supply for Internal Loads and INTVCC Regulator. Must be locally bypassed with a 0.22uF (or larger) low ESR capacitor placed close to the pin.", 8 SW (power) "Drain of Internal Power N-channel MOSFET.", 9 SW (power) "Drain of Internal Power N-channel MOSFET.", 20 SW (power) "Drain of Internal Power N-channel MOSFET.", 21 SW (power) "Drain of Internal Power N-channel MOSFET.", 23 PWMOUT (out) "Buffered Version of PWM Signal for Driving LED Load Disconnect NMOS or Level Shift. This pin also serves in a protection function for the FB overvoltage condition-will toggle if the FB input is greater than the FB regulation (See Datasheet)", 25 FB (in) "Voltage Loop Feedback Pin. FB is intended for constant-voltage regulation or for LED protection and open LED detection. The internal transconductance amplifier with output VC will regulate FB to 1.25V (nominal) through the (See Datasheet)", 27 ISN (in) "Connection Point for the Negative Terminal of the Current Feedback Resistor. The constant output current regulation can be programmed by ILED = 250mV/ RLED when CTRL > 1.2V or ILED = (CTRL - 100mV)/(4 ? RLED). If ISN i(See Datasheet)", 28 ISP (in) "Connection Point for the Positive Terminal of the Current Feedback Resistor. Input bias current depends upon CTRL pin voltage. When it is greater than INTVCC it flows into the pin. Below INTVCC, ISP bias current decreases (See Datasheet)", 30 VC "Transconductance Error Amplifier Output Pin Used to Stabilize the Switching Regulator Control Loop with an RC Network. The VC pin is high impedance when PWM is low. This feature allows the VC pin to store the demand current (See Datasheet)", 31 CTRL (in) "Current Sense Threshold Adjustment Pin. Constant current regulation point VISP-ISN is one-fourth VCTRL plus an offset for 0V = CTRL = 1V. For CTRL > 1.2V the VISP-ISN current regulation point is constant at the full-scale (See Datasheet)", 32 VREF (out) "Voltage Reference Output Pin, Typically 2V. This pin drives a resistor divider for the CTRL pin, either for analog dimming or for temperature limit/compensation of LED load. It can be bypassed with 10nF or greater, or less (See Datasheet)", 33 PWM (in) "A signal low turns off switcher, idles the oscillator and disconnects the VC pin from all internal loads. PWMOUT pin follows the PWM pin, except in fault conditions. The PWM pin can be driven with a digital signal to cause (See Datasheet)", 34 ~{VMODE} (oc) "An open-drain pull-down on this pin asserts if the FB input is greater than the FB regulation voltage (VFB) minus 50mV (typical) AND the differenc between current sense inputs ISP and ISN is less than 25mV. To function, the (See Datasheet)", 35 DIM/SS (in) "Soft-Start and PWM Dimming Signal Generator Programming Pin. This pin modulates switching regulator frequency and compensation pin voltage (VC) clamp when it is below 1V. The soft-start interval is set with an external (See Datasheet)", 36 RT "Switching Frequency Adjustment Pin. Set the frequency using a resistor to GND (for resistor values, see the Typical Performance curve or Table 2). Do not leave the RT pin open. Place the resistor close to the IC.", 38 SW (power) "Drain of Internal Power N-channel MOSFET."
part B pins: 4 GND (power) "Ground. Solder the exposed pads directly to the ground plane.", 10 NC, 12 GNDK (power) "Kelvin Connection Pin between PGND and GND. Kelvin connect this pin to the GND plane close to the IC. See the Board Layout section.", 13 PGND (power) "Source Terminal Switch and the GND Input to the Switch Current Comparator.", 14 PGND (power) "Source Terminal Switch and the GND Input to the Switch Current Comparator.", 15 PGND (power) "Source Terminal Switch and the GND Input to the Switch Current Comparator.", 16 PGND (power) "Source Terminal Switch and the GND Input to the Switch Current Comparator.", 17 PGND (power) "Source Terminal Switch and the GND Input to the Switch Current Comparator.", 24 GND (power) "Ground. Solder the exposed pads directly to the ground plane.", 37 GND (power) "Ground. Solder the exposed pads directly to the ground plane."

## LT3954IUHE#PBF
designator U?
LED Converter with Internal PWM Generator, 4.5 to 40 V Vin, 40 V Vout MAX, 36-pin QFN (UHE-36-V-UHE28MA), -40 to 125 degC, Pb-Free; Manufacturer: Linear Technology; PartNumber: LT3954IUHE#PBF; Topology: Buck, Boost, Sepic, Buck-Boost, LED Driver; Vin Min(V): 4.5; PackageVersion: Rev. D, 02/2012; PackageReference: UHE-36; PackageDescription: 28-Pin Plastic QFN, Body 5 x 6 mm, Pitch 0.5 mm; RoHS: TRUE; Mounting Technology: Surface Mount; ComponentLink1Description: Manufacturer URL; ComponentLink1URL: http://www.linear.com/; ComponentLink2Description: Datasheet; ComponentLink2URL: http://cds.linear.com/docs/en/datasheet/3954f.pdf; ComponentLink3Description: Package Specification; ComponentLink3URL: http://cds.linear.com/docs/en/packaging/QFN_28_05-08-1836.pdf
footprint LT-UHE-36-V-UHE28MA_V (QFN, 28-Leads, Body 6x5mm, Pitch 0.5mm)
part A pins: 1 SYNC (in) "Frequency Synchronization Pin. Used to synchronize the internal oscillator to an outside clock. If this feature is used, an RT resistor should be chosen to program a switching frequency 20% slower than SYNC pulse frequency. (See Datasheet)", 2 EN/UVLO (in) "Enable and Undervoltage Detect Pin. An accurate 1.22V falling threshold with externally programmable hysteresis causes the switching regulator to shut down when power is insufficient to maintain output regulation. Above the (See Datasheet)", 3 INTVCC (power) "Current limited, low dropout linear regulator regulates to 7.85V (typical) from VIN. Supplies internal loads, SW and PWMOUT drivers. Must be bypassed with a 1uF ceramic capacitor placed close to the pin and to the exposed (See Datasheet)", 6 VIN (power) "Power Supply for Internal Loads and INTVCC Regulator. Must be locally bypassed with a 0.22uF (or larger) low ESR capacitor placed close to the pin.", 8 SW (power) "Drain of Internal Power N-channel MOSFET.", 9 SW (power) "Drain of Internal Power N-channel MOSFET.", 20 SW (power) "Drain of Internal Power N-channel MOSFET.", 21 SW (power) "Drain of Internal Power N-channel MOSFET.", 23 PWMOUT (out) "Buffered Version of PWM Signal for Driving LED Load Disconnect NMOS or Level Shift. This pin also serves in a protection function for the FB overvoltage condition-will toggle if the FB input is greater than the FB regulation (See Datasheet)", 25 FB (in) "Voltage Loop Feedback Pin. FB is intended for constant-voltage regulation or for LED protection and open LED detection. The internal transconductance amplifier with output VC will regulate FB to 1.25V (nominal) through the (See Datasheet)", 27 ISN (in) "Connection Point for the Negative Terminal of the Current Feedback Resistor. The constant output current regulation can be programmed by ILED = 250mV/ RLED when CTRL > 1.2V or ILED = (CTRL - 100mV)/(4 ? RLED). If ISN i(See Datasheet)", 28 ISP (in) "Connection Point for the Positive Terminal of the Current Feedback Resistor. Input bias current depends upon CTRL pin voltage. When it is greater than INTVCC it flows into the pin. Below INTVCC, ISP bias current decreases (See Datasheet)", 30 VC "Transconductance Error Amplifier Output Pin Used to Stabilize the Switching Regulator Control Loop with an RC Network. The VC pin is high impedance when PWM is low. This feature allows the VC pin to store the demand current (See Datasheet)", 31 CTRL (in) "Current Sense Threshold Adjustment Pin. Constant current regulation point VISP-ISN is one-fourth VCTRL plus an offset for 0V = CTRL = 1V. For CTRL > 1.2V the VISP-ISN current regulation point is constant at the full-scale (See Datasheet)", 32 VREF (out) "Voltage Reference Output Pin, Typically 2V. This pin drives a resistor divider for the CTRL pin, either for analog dimming or for temperature limit/compensation of LED load. It can be bypassed with 10nF or greater, or less (See Datasheet)", 33 PWM (in) "A signal low turns off switcher, idles the oscillator and disconnects the VC pin from all internal loads. PWMOUT pin follows the PWM pin, except in fault conditions. The PWM pin can be driven with a digital signal to cause (See Datasheet)", 34 ~{VMODE} (oc) "An open-drain pull-down on this pin asserts if the FB input is greater than the FB regulation voltage (VFB) minus 50mV (typical) AND the differenc between current sense inputs ISP and ISN is less than 25mV. To function, the (See Datasheet)", 35 DIM/SS (in) "Soft-Start and PWM Dimming Signal Generator Programming Pin. This pin modulates switching regulator frequency and compensation pin voltage (VC) clamp when it is below 1V. The soft-start interval is set with an external (See Datasheet)", 36 RT "Switching Frequency Adjustment Pin. Set the frequency using a resistor to GND (for resistor values, see the Typical Performance curve or Table 2). Do not leave the RT pin open. Place the resistor close to the IC.", 38 SW (power) "Drain of Internal Power N-channel MOSFET."
part B pins: 4 GND (power) "Ground. Solder the exposed pads directly to the ground plane.", 10 NC, 12 GNDK (power) "Kelvin Connection Pin between PGND and GND. Kelvin connect this pin to the GND plane close to the IC. See the Board Layout section.", 13 PGND (power) "Source Terminal Switch and the GND Input to the Switch Current Comparator.", 14 PGND (power) "Source Terminal Switch and the GND Input to the Switch Current Comparator.", 15 PGND (power) "Source Terminal Switch and the GND Input to the Switch Current Comparator.", 16 PGND (power) "Source Terminal Switch and the GND Input to the Switch Current Comparator.", 17 PGND (power) "Source Terminal Switch and the GND Input to the Switch Current Comparator.", 24 GND (power) "Ground. Solder the exposed pads directly to the ground plane.", 37 GND (power) "Ground. Solder the exposed pads directly to the ground plane."